# Altium schematic symbol library COOLCONTROL.SCHLIB: 84 symbols
Pins are listed as number, name and electrical type; pins without a type are passive.

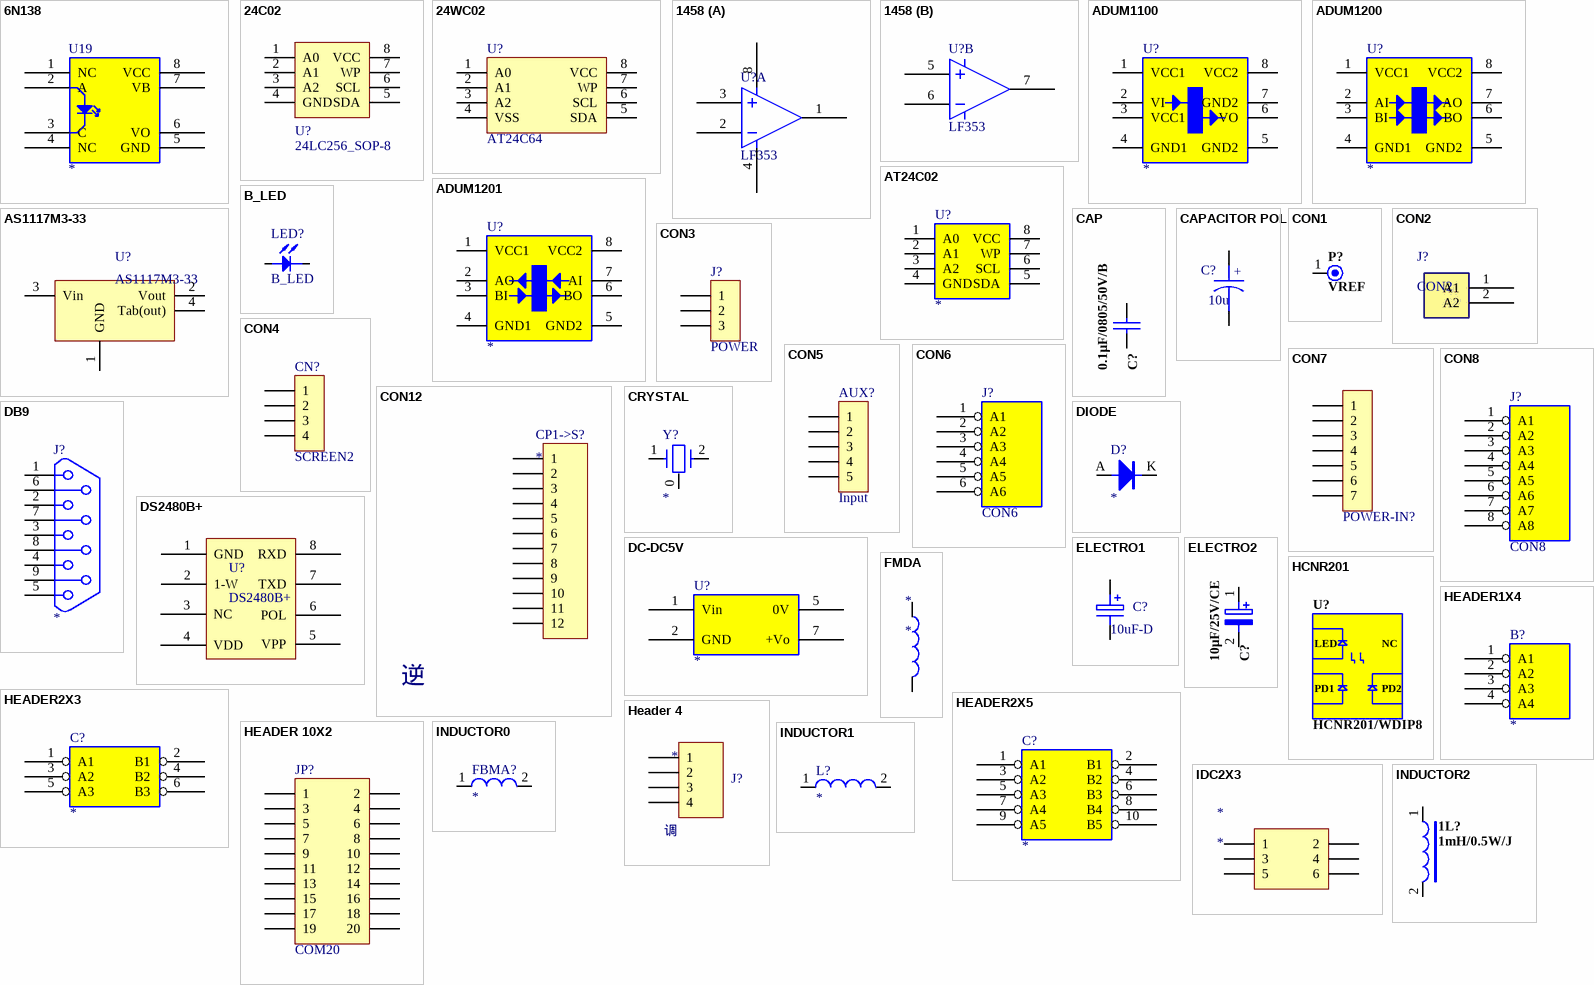
[diagram p0: symbols 6N138 to INDUCTOR2]

## 6N138
designator U19
footprint DIP08
footprint DIP08
pins: 1 NC, 2 A, 3 C, 4 NC, 5 GND, 6 VO, 7 VB, 8 VCC
2 alternate drawings of the same symbol

## 24C02
designator U?, comment 24LC256_SOP-8
footprint SO-8
pins: 1 A0, 2 A1, 3 A2, 4 GND, 5 SDA, 6 SCL, 7 WP, 8 VCC

## 24WC02
designator U?, comment AT24C64
footprint SO-8
pins: 1 A0, 2 A1, 3 A2, 4 VSS, 5 SDA, 6 SCL, 7 WP, 8 VCC
2 alternate drawings of the same symbol

## 1458
designator U?, comment LF353
footprint DIP-8
footprint DIP8
part A pins: 1, 2, 3, 4, 8
part B pins: 5, 6, 7
2 alternate drawings of the same symbol

## ADUM1100
designator U?
footprint SOIC8_N
pins: 1 VCC1, 2 VI, 3 VCC1, 4 GND1, 5 GND2, 6 VO, 7 GND2, 8 VCC2
2 alternate drawings of the same symbol

## ADUM1200
designator U?
footprint SOIC8_N
pins: 1 VCC1, 2 AI, 3 BI, 4 GND1, 5 GND2, 6 BO, 7 AO, 8 VCC2
2 alternate drawings of the same symbol

## ADUM1201
designator U?
footprint SOIC8_N
pins: 1 VCC1, 2 AO, 3 BI, 4 GND1, 5 GND2, 6 BO, 7 AI, 8 VCC2
2 alternate drawings of the same symbol

## AS1117M3-33
designator U?
物?: *; 部?: *; 供?: *
footprint SOT-223-3L(M3)
pins: 1 GND, 2 Vout, 3 Vin, 4 Tab(out)

## AT24C02
designator U?
footprint SO-8
pins: 1 A0, 2 A1, 3 A2, 4 GND, 5 SDA, 6 SCL, 7 WP, 8 VCC
2 alternate drawings of the same symbol

## B_LED
designator LED?
footprint LED_0805
pins: 1, 2

## CAP
designator C?, comment 0.1μF/0805/50V/B
Capacitor; 物: *; 部: *; 供: *
footprint C0805
pins: 1, 2

## CAPACITOR POL
designator C?, comment 10u
Capacitor
footprint RB.1/.2
pins: 1, 2
2 alternate drawings of the same symbol
text: +

## CON1
designator P?, comment VREF
footprint SIP01
pins: 1

## CON2
designator J?
footprint HEADER2
pins: 1 A1, 2 A2

## CON3
designator J?, comment POWER
Connector
footprint SIP3B
pins: 1, 2, 3
2 alternate drawings of the same symbol

## CON4
designator CN?, comment SCREEN2
Connector
footprint SIP4B
pins: 1, 2, 3, 4
2 alternate drawings of the same symbol

## CON5
designator AUX?, comment Input
Connector
footprint SIP5B
pins: 1, 2, 3, 4, 5
2 alternate drawings of the same symbol

## CON6
designator J?
footprint SIP-6
pins: 1 A1, 2 A2, 3 A3, 4 A4, 5 A5, 6 A6

## CON7
designator POWER-IN?  (value not drawn)
Connector
footprint SIP7B
pins: 1, 2, 3, 4, 5, 6, 7
2 alternate drawings of the same symbol

## CON8
designator J?
footprint CON8
pins: 1 A1, 2 A2, 3 A3, 4 A4, 5 A5, 6 A6, 7 A7, 8 A8

## CON12
designator CP1->S?
Connector
footprint SIP12B
pins: 1, 2, 3, 4, 5, 6, 7, 8, 9, 10, 11, 12
2 alternate drawings of the same symbol
text: 逆

## CRYSTAL
designator Y?
物?: *; 部?: *; 供?: *
footprint XTAL_SOCKET
footprint XTAL4
pins: 0, 1, 2
2 alternate drawings of the same symbol

## DB9
designator J?
footprint DB9FL
pins: 1, 2, 3, 4, 5, 6, 7, 8, 9
2 alternate drawings of the same symbol

## DC-DC5V
designator U?
footprint DC-DC
pins: 1 Vin, 2 GND, 5 0V, 7 +Vo
2 alternate drawings of the same symbol

## DIODE
designator D?
footprint SMB
pins: A, K
2 alternate drawings of the same symbol

## DS2480B+
designator U?
footprint SOIC127P600-8
pins: 1 GND, 2 1-W, 3 NC, 4 VDD, 5 VPP, 6 POL, 7 TXD, 8 RXD

## ELECTRO1
designator C?, comment 10uF-D
Electrolytic Capacitor
footprint RB.1/.2
pins: 1, 2
2 alternate drawings of the same symbol

## ELECTRO2
designator C?, comment 10μF/25V/CE
footprint RB.1/.2
pins: 1, 2

## FMDA
designator *
pins: 1, 2

## HCNR201
designator U?, comment HCNR201/WDIP8
footprint DIP08W
pins: 1 hidden, 2 hidden, 3 hidden, 4 hidden, 5 hidden, 6 hidden, 7 hidden, 8 hidden
2 alternate drawings of the same symbol
text: LED; NC; PD1; PD2

## HEADER1X4
designator B?
footprint SIP_4
pins: 1 A1, 2 A2, 3 A3, 4 A4
2 alternate drawings of the same symbol

## HEADER2X3
designator C?
footprint HEADER6
pins: 1 A1, 2 B1, 3 A2, 4 B2, 5 A3, 6 B3
2 alternate drawings of the same symbol

## HEADER2X5
designator C?
LatestRevisionDate: *; LatestRevisionNote: *; Publisher: *
footprint HEARD2X5
pins: 1 A1, 2 B1, 3 A2, 4 B2, 5 A3, 6 B3, 7 A4, 8 B4, 9 A5, 10 B5
2 alternate drawings of the same symbol

## Header 4
designator J?
Header, 4-Pin; LatestRevisionDate: 17-Jul-2002; LatestRevisionNote: Re-released for DXP Platform.; Publisher: Altium Limited
footprint SIP_4
pins: 1, 2, 3, 4
text: 调

## HEADER 10X2
designator JP?, comment COM20
物?: *; 部?: *; 供?: *
footprint IDC20
pins: 1, 2, 3, 4, 5, 6, 7, 8, 9, 10, 11, 12, 13, 14, 15, 16, 17, 18, 19, 20

## IDC2X3
designator *
pins: 1, 2, 3, 4, 5, 6

## INDUCTOR0
designator FBMA?
物?: *; 部?: *; 供?: *
footprint L0805
pins: 1, 2
2 alternate drawings of the same symbol

## INDUCTOR1
designator L?
footprint AXIAL0.4
pins: 1, 2
2 alternate drawings of the same symbol

## INDUCTOR2
designator 1L?, comment 1mH/0.5W/J
footprint AXIAL0.4
pins: 1, 2

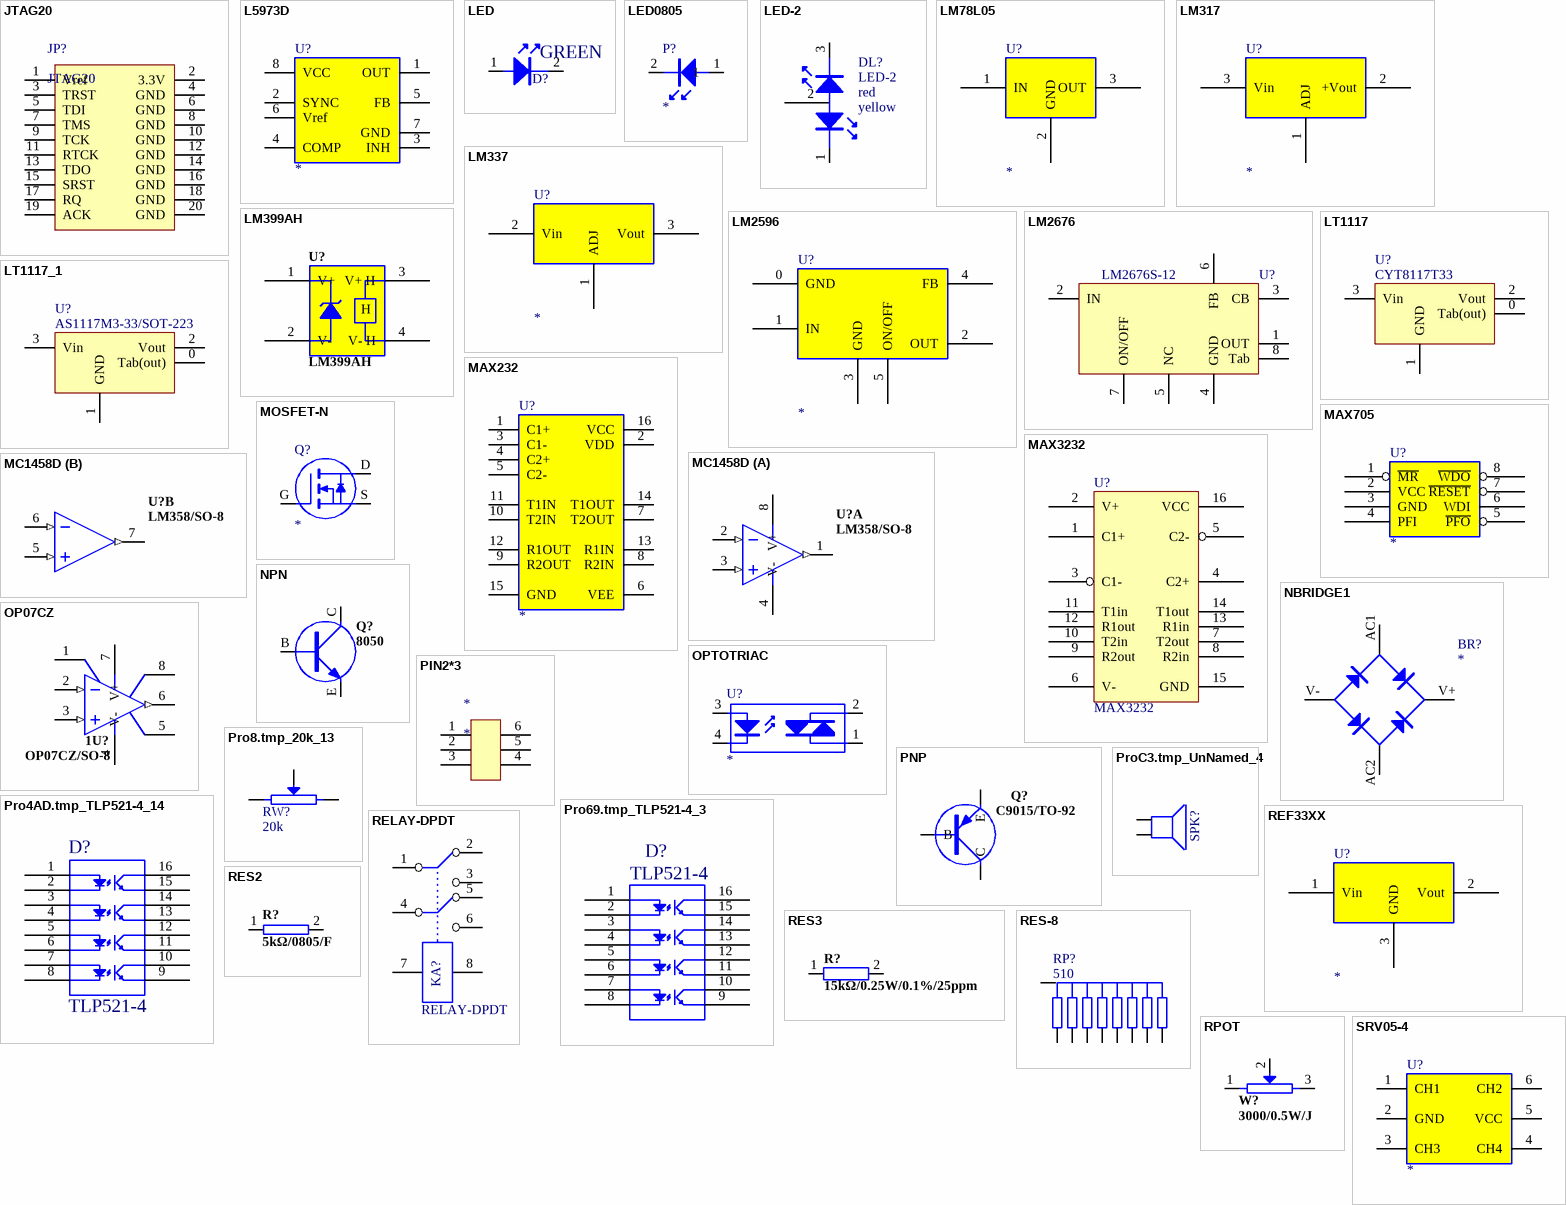
[diagram p1: symbols JTAG20 to SRV05-4]

## JTAG20
designator JP?
pins: 1 Vref, 2 3.3V, 3 TRST, 4 GND, 5 TDI, 6 GND, 7 TMS, 8 GND, 9 TCK, 10 GND, 11 RTCK, 12 GND, 13 TDO, 14 GND, 15 SRST, 16 GND, 17 RQ, 18 GND, 19 ACK, 20 GND

## L5973D
designator U?
footprint HSOP8
pins: 1 OUT, 2 SYNC, 3 INH, 4 COMP, 5 FB, 6 Vref, 7 GND, 8 VCC
2 alternate drawings of the same symbol

## LED
designator D?, comment GREEN
value: *
footprint 0805
footprint LED3_1
pins: 1, 2
2 alternate drawings of the same symbol

## LED0805
designator P?
footprint LED_0805
pins: 1, 2
2 alternate drawings of the same symbol

## LED-2
designator DL?
footprint LED3_2
pins: 1, 2, 3
2 alternate drawings of the same symbol
text: red; yellow

## LM78L05
designator U?
footprint TO-220
pins: 1 IN, 2 GND, 3 OUT
2 alternate drawings of the same symbol

## LM317
designator U?
L
footprint TO220H
pins: 1 ADJ, 2 +Vout, 3 Vin
2 alternate drawings of the same symbol

## LM337
designator U?
footprint TO220H
pins: 1 ADJ, 2 Vin, 3 Vout
2 alternate drawings of the same symbol

## LM399AH
designator U?
footprint LM399
pins: 1 V+ (power), 2 V- (power), 3 V+ H (power), 4 V- H (power)
2 alternate drawings of the same symbol
text: H

## LM2596
designator U?
footprint TO263
pins: 0 GND, 1 IN, 2 OUT, 3 GND, 4 FB, 5 ON/OFF
2 alternate drawings of the same symbol

## LM2676
designator U?, comment LM2676S-12
footprint TO-263-7
pins: 1 OUT, 2 IN, 3 CB, 4 GND, 5 NC, 6 FB, 7 ON/OFF, 8 Tab

## LT1117
designator U?, comment CYT8117T33
footprint SOT-223_1
pins: 0 Tab(out), 1 GND, 2 Vout, 3 Vin
2 alternate drawings of the same symbol

## LT1117_1
designator U?, comment AS1117M3-33/SOT-223
footprint SOT-223-3L(M3)
pins: 0 Tab(out), 1 GND, 2 Vout, 3 Vin
2 alternate drawings of the same symbol

## MAX232
designator U?
Published: *; LatestRevisionDate: *; LatestRevisionNote: *; PackageReference: *; Publisher: *; PackageDescription: *; Code_JEDEC: *; Code_IPC: *; ComponentLink1Description: *; ComponentLink1URL: *; ComponentLink2Description: *; ComponentLink2URL: *
footprint TSSOP16_M
pins: 1 C1+, 2 VDD (power), 3 C1-, 4 C2+, 5 C2-, 6 VEE (power), 7 T2OUT, 8 R2IN, 9 R2OUT, 10 T2IN, 11 T1IN, 12 R1OUT, 13 R1IN, 14 T1OUT, 15 GND (power), 16 VCC (power)
2 alternate drawings of the same symbol

## MAX705
designator U?
footprint SO-8
pins: 1 ~{MR}, 2 VCC, 3 GND, 4 PFI, 5 ~{PFO}, 6 WDI, 7 ~{RESET}, 8 ~{WDO}
2 alternate drawings of the same symbol

## MAX3232
designator U?
footprint DIP16
pins: 1 C1+, 2 V+, 3 C1-, 4 C2+, 5 C2-, 6 V-, 7 T2out, 8 R2in, 9 R2out, 10 T2in, 11 T1in, 12 R1out, 13 R1in, 14 T1out, 15 GND, 16 VCC
2 alternate drawings of the same symbol

## MC1458D
designator U?, comment LM358/SO-8
footprint SO-8
part A pins: 1 (out), 2 (in), 3 (in), 4 V- (power), 8 V+ (power)
part B pins: 5 (in), 6 (in), 7 (out)
2 alternate drawings of the same symbol

## MOSFET-N
designator Q?
footprint SOT-23-B
pins: D, G, S

## NBRIDGE1
designator BR?
footprint DB157S
pins: AC1, AC2, V+, V-
2 alternate drawings of the same symbol

## NPN
designator Q?, comment 8050
footprint TO92A
pins: B, C, E

## OP07CZ
designator 1U?, comment OP07CZ/SO-8
footprint SO-8
pins: 1, 2 (in), 3 (in), 4 V- (power), 5, 6 (out), 7 V+ (power), 8
2 alternate drawings of the same symbol

## OPTOTRIAC
designator U?
footprint SPST-REALY
pins: 1, 2, 3, 4

## PIN2*3
designator *
pins: 1, 2, 3, 4, 5, 6

## PNP
designator Q?, comment C9015/TO-92
footprint TO-92B (TO, Flat Index; 3 In-Line, Axial Leads; Body Dia. 4.8mm; Leads 0.48 x 0.5 mm (max))
pins: 1 B, 2 E, 3 C

## Pro4AD.tmp_TLP521-4_14
designator D?, comment TLP521-4
footprint DIP16
pins: 1, 2, 3, 4, 5, 6, 7, 8, 9, 10, 11, 12, 13, 14, 15, 16
2 alternate drawings of the same symbol

## Pro8.tmp_20k_13
designator RW?, comment 20k
footprint VR5
pins: 1, 2, 3
2 alternate drawings of the same symbol

## Pro69.tmp_TLP521-4_3
designator D?, comment TLP521-4
footprint DIP16
pins: 1, 2, 3, 4, 5, 6, 7, 8, 9, 10, 11, 12, 13, 14, 15, 16
2 alternate drawings of the same symbol

## ProC3.tmp_UnNamed_4
designator SPK?
footprint SPK
footprint BELL-2
pins: 1, 2
2 alternate drawings of the same symbol

## REF33XX
designator U?
物?: *; 部?: *; 供?: *
footprint SOT-23-B
pins: 1 Vin, 2 Vout, 3 GND
2 alternate drawings of the same symbol

## RELAY-DPDT
designator KA?
JK
footprint RELAY8
footprint RL-8N
footprint RL-8D
footprint RELAY-8
pins: 1, 2, 3, 4, 5, 6, 7, 8
2 alternate drawings of the same symbol

## RES2
designator R?, comment 5kΩ/0805/F
footprint R0805
pins: 1, 2

## RES3
designator R?, comment 15kΩ/0.25W/0.1%/25ppm
footprint AXIAL0.3
pins: 1, 2
2 alternate drawings of the same symbol

## RES-8
designator RP?, comment 510
footprint SIP9
pins: 1, 2, 3, 4, 5, 6, 7, 8, 9
2 alternate drawings of the same symbol

## RPOT
designator W?, comment 3000/0.5W/J
footprint RVR-4
pins: 1, 2, 3

## SRV05-4
designator U?
footprint SOT23-6
pins: 1 CH1, 2 GND, 3 CH3, 4 CH4, 5 VCC, 6 CH2
2 alternate drawings of the same symbol

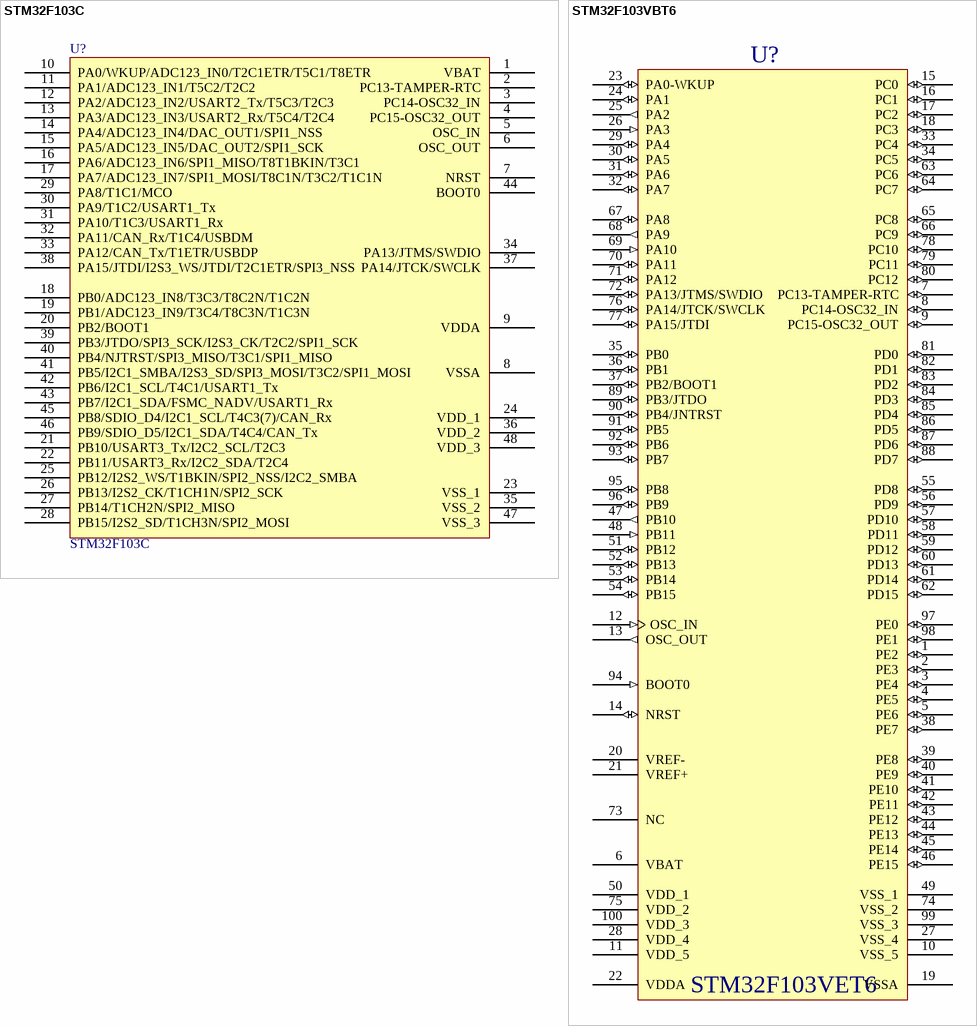
[diagram p2: symbols STM32F103C to STM32F103VBT6]

## STM32F103C
designator U?
STM32单片机48引脚
footprint LQFP-48_M (Thin QFP, 48-Leads, Body 7x7mm, Pitch 0.5mm, IPC Low Density)
pins: 1 VBAT, 2 PC13-TAMPER-RTC, 3 PC14-OSC32_IN, 4 PC15-OSC32_OUT, 5 OSC_IN, 6 OSC_OUT, 7 NRST, 8 VSSA, 9 VDDA, 10 PA0/WKUP/ADC123_IN0/T2C1ETR/T5C1/T8ETR, 11 PA1/ADC123_IN1/T5C2/T2C2, 12 PA2/ADC123_IN2/USART2_Tx/T5C3/T2C3, 13 PA3/ADC123_IN3/USART2_Rx/T5C4/T2C4, 14 PA4/ADC123_IN4/DAC_OUT1/SPI1_NSS, 15 PA5/ADC123_IN5/DAC_OUT2/SPI1_SCK, 16 PA6/ADC123_IN6/SPI1_MISO/T8T1BKIN/T3C1, 17 PA7/ADC123_IN7/SPI1_MOSI/T8C1N/T3C2/T1C1N, 18 PB0/ADC123_IN8/T3C3/T8C2N/T1C2N, 19 PB1/ADC123_IN9/T3C4/T8C3N/T1C3N, 20 PB2/BOOT1, 21 PB10/USART3_Tx/I2C2_SCL/T2C3, 22 PB11/USART3_Rx/I2C2_SDA/T2C4, 23 VSS_1, 24 VDD_1, 25 PB12/I2S2_WS/T1BKIN/SPI2_NSS/I2C2_SMBA, 26 PB13/I2S2_CK/T1CH1N/SPI2_SCK, 27 PB14/T1CH2N/SPI2_MISO, 28 PB15/I2S2_SD/T1CH3N/SPI2_MOSI, 29 PA8/T1C1/MCO, 30 PA9/T1C2/USART1_Tx, 31 PA10/T1C3/USART1_Rx, 32 PA11/CAN_Rx/T1C4/USBDM, 33 PA12/CAN_Tx/T1ETR/USBDP, 34 PA13/JTMS/SWDIO, 35 VSS_2, 36 VDD_2, 37 PA14/JTCK/SWCLK, 38 PA15/JTDI/I2S3_WS/JTDI/T2C1ETR/SPI3_NSS, 39 PB3/JTDO/SPI3_SCK/I2S3_CK/T2C2/SPI1_SCK, 40 PB4/NJTRST/SPI3_MISO/T3C1/SPI1_MISO, 41 PB5/I2C1_SMBA/I2S3_SD/SPI3_MOSI/T3C2/SPI1_MOSI, 42 PB6/I2C1_SCL/T4C1/USART1_Tx, 43 PB7/I2C1_SDA/FSMC_NADV/USART1_Rx, 44 BOOT0, 45 PB8/SDIO_D4/I2C1_SCL/T4C3(7)/CAN_Rx, 46 PB9/SDIO_D5/I2C1_SDA/T4C4/CAN_Tx, 47 VSS_3, 48 VDD_3

## STM32F103VBT6
designator U?, comment STM32F103VET6
STM32 ARM-based 32-bit MCU with 64 Kbytes Flash, 100-pin LQFP, Industrial Temperature; Published: *; DatasheetVersion: *; PackageVersion: *; PackageReference: *; Publisher: *; PackageDescription: *; ComponentLink1Description: *; ComponentLink1URL: *; ComponentLink2Description: *; ComponentLink2URL: *
footprint LQFP100_N
footprint LQFP100_L
footprint LQFP100_M
pins: 1 PE2 (io), 2 PE3 (io), 3 PE4 (io), 4 PE5 (io), 5 PE6 (io), 6 VBAT (power), 7 PC13-TAMPER-RTC (io), 8 PC14-OSC32_IN (io), 9 PC15-OSC32_OUT (io), 10 VSS_5 (power), 11 VDD_5 (power), 12 OSC_IN (in), 13 OSC_OUT (out), 14 NRST (io), 15 PC0 (io), 16 PC1 (io), 17 PC2 (io), 18 PC3 (io), 19 VSSA (power), 20 VREF- (power), 21 VREF+ (power), 22 VDDA (power), 23 PA0-WKUP (io), 24 PA1 (io), 25 PA2 (out), 26 PA3 (in), 27 VSS_4 (power), 28 VDD_4 (power), 29 PA4 (io), 30 PA5 (io), 31 PA6 (io), 32 PA7 (io), 33 PC4 (io), 34 PC5 (io), 35 PB0 (io), 36 PB1 (io), 37 PB2/BOOT1 (io), 38 PE7 (io), 39 PE8 (io), 40 PE9 (io), 41 PE10 (io), 42 PE11 (io), 43 PE12 (io), 44 PE13 (io), 45 PE14 (io), 46 PE15 (io), 47 PB10 (out), 48 PB11 (in), 49 VSS_1 (power), 50 VDD_1 (power), 51 PB12 (io), 52 PB13 (io), 53 PB14 (io), 54 PB15 (io), 55 PD8 (io), 56 PD9 (io), 57 PD10 (io), 58 PD11 (io), 59 PD12 (io), 60 PD13 (io), 61 PD14 (io), 62 PD15 (io), 63 PC6 (io), 64 PC7 (io), 65 PC8 (io), 66 PC9 (io), 67 PA8 (io), 68 PA9 (out), 69 PA10 (in), 70 PA11 (io), 71 PA12 (io), 72 PA13/JTMS/SWDIO (io), 73 NC, 74 VSS_2 (power), 75 VDD_2 (power), 76 PA14/JTCK/SWCLK (io), 77 PA15/JTDI (io), 78 PC10 (io), 79 PC11 (io), 80 PC12 (io), 81 PD0 (io), 82 PD1 (io), 83 PD2 (io), 84 PD3 (io), 85 PD4 (io), 86 PD5 (io), 87 PD6 (io), 88 PD7 (io), 89 PB3/JTDO (io), 90 PB4/JNTRST (io), 91 PB5 (io), 92 PB6 (io), 93 PB7 (io), 94 BOOT0 (in), 95 PB8 (io), 96 PB9 (io), 97 PE0 (io), 98 PE1 (io), 99 VSS_3 (power), 100 VDD_3 (power)
2 alternate drawings of the same symbol

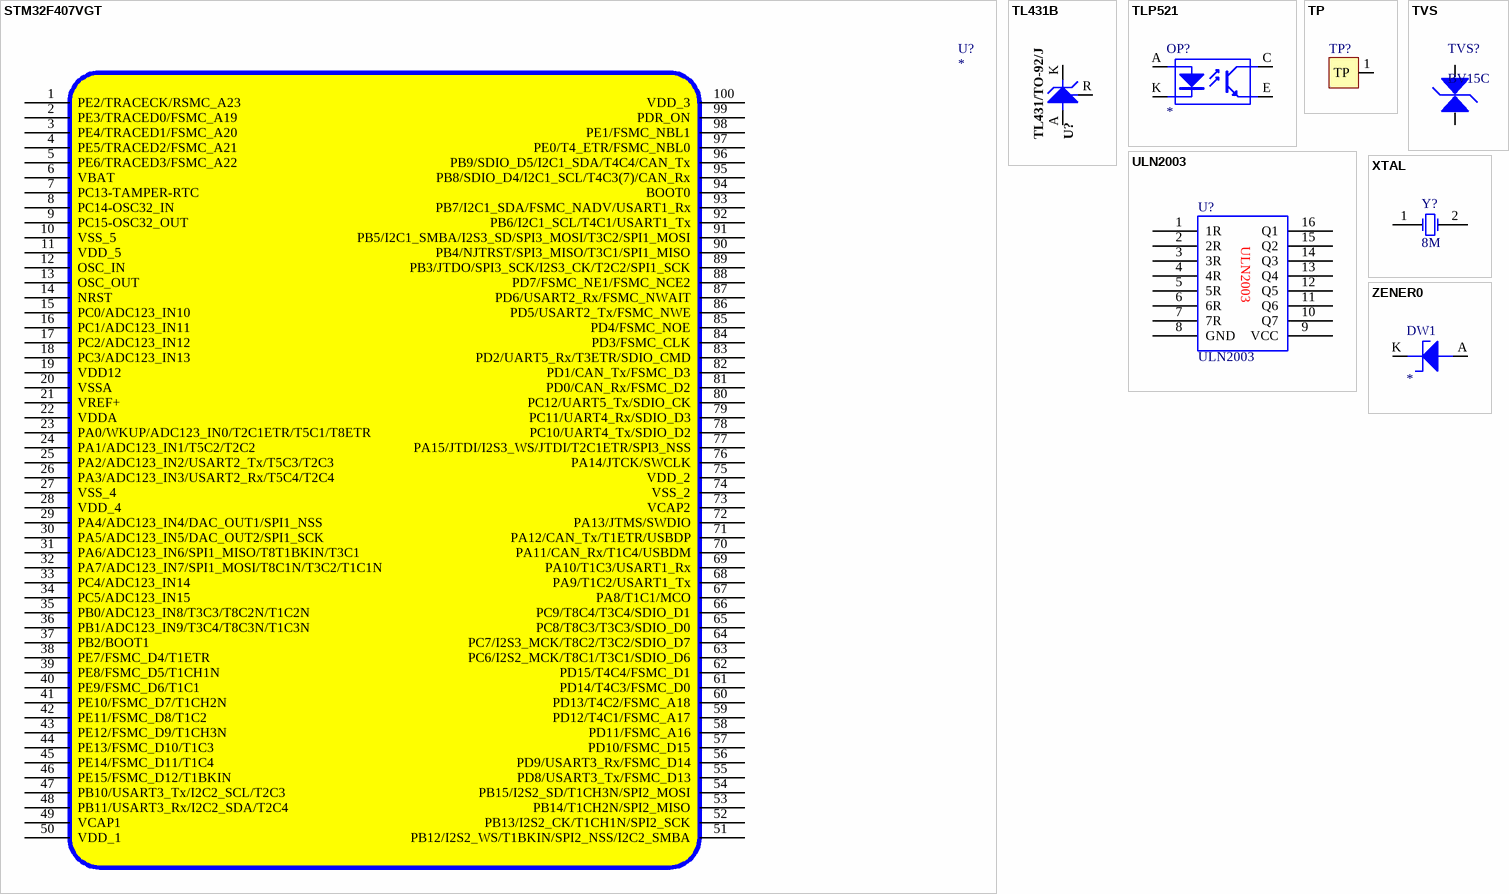
[diagram p3: symbols STM32F407VGT to ZENER0]

## STM32F407VGT
designator U?
footprint LQFP-100
pins: 1 PE2/TRACECK/RSMC_A23, 2 PE3/TRACED0/FSMC_A19, 3 PE4/TRACED1/FSMC_A20, 4 PE5/TRACED2/FSMC_A21, 5 PE6/TRACED3/FSMC_A22, 6 VBAT, 7 PC13-TAMPER-RTC, 8 PC14-OSC32_IN, 9 PC15-OSC32_OUT, 10 VSS_5, 11 VDD_5, 12 OSC_IN, 13 OSC_OUT, 14 NRST, 15 PC0/ADC123_IN10, 16 PC1/ADC123_IN11, 17 PC2/ADC123_IN12, 18 PC3/ADC123_IN13, 19 VDD12, 20 VSSA, 21 VREF+, 22 VDDA, 23 PA0/WKUP/ADC123_IN0/T2C1ETR/T5C1/T8ETR, 24 PA1/ADC123_IN1/T5C2/T2C2, 25 PA2/ADC123_IN2/USART2_Tx/T5C3/T2C3, 26 PA3/ADC123_IN3/USART2_Rx/T5C4/T2C4, 27 VSS_4, 28 VDD_4, 29 PA4/ADC123_IN4/DAC_OUT1/SPI1_NSS, 30 PA5/ADC123_IN5/DAC_OUT2/SPI1_SCK, 31 PA6/ADC123_IN6/SPI1_MISO/T8T1BKIN/T3C1, 32 PA7/ADC123_IN7/SPI1_MOSI/T8C1N/T3C2/T1C1N, 33 PC4/ADC123_IN14, 34 PC5/ADC123_IN15, 35 PB0/ADC123_IN8/T3C3/T8C2N/T1C2N, 36 PB1/ADC123_IN9/T3C4/T8C3N/T1C3N, 37 PB2/BOOT1, 38 PE7/FSMC_D4/T1ETR, 39 PE8/FSMC_D5/T1CH1N, 40 PE9/FSMC_D6/T1C1, 41 PE10/FSMC_D7/T1CH2N, 42 PE11/FSMC_D8/T1C2, 43 PE12/FSMC_D9/T1CH3N, 44 PE13/FSMC_D10/T1C3, 45 PE14/FSMC_D11/T1C4, 46 PE15/FSMC_D12/T1BKIN, 47 PB10/USART3_Tx/I2C2_SCL/T2C3, 48 PB11/USART3_Rx/I2C2_SDA/T2C4, 49 VCAP1, 50 VDD_1, 51 PB12/I2S2_WS/T1BKIN/SPI2_NSS/I2C2_SMBA, 52 PB13/I2S2_CK/T1CH1N/SPI2_SCK, 53 PB14/T1CH2N/SPI2_MISO, 54 PB15/I2S2_SD/T1CH3N/SPI2_MOSI, 55 PD8/USART3_Tx/FSMC_D13, 56 PD9/USART3_Rx/FSMC_D14, 57 PD10/FSMC_D15, 58 PD11/FSMC_A16, 59 PD12/T4C1/FSMC_A17, 60 PD13/T4C2/FSMC_A18, 61 PD14/T4C3/FSMC_D0, 62 PD15/T4C4/FSMC_D1, 63 PC6/I2S2_MCK/T8C1/T3C1/SDIO_D6, 64 PC7/I2S3_MCK/T8C2/T3C2/SDIO_D7, 65 PC8/T8C3/T3C3/SDIO_D0, 66 PC9/T8C4/T3C4/SDIO_D1, 67 PA8/T1C1/MCO, 68 PA9/T1C2/USART1_Tx, 69 PA10/T1C3/USART1_Rx, 70 PA11/CAN_Rx/T1C4/USBDM, 71 PA12/CAN_Tx/T1ETR/USBDP, 72 PA13/JTMS/SWDIO, 73 VCAP2, 74 VSS_2, 75 VDD_2, 76 PA14/JTCK/SWCLK, 77 PA15/JTDI/I2S3_WS/JTDI/T2C1ETR/SPI3_NSS, 78 PC10/UART4_Tx/SDIO_D2, 79 PC11/UART4_Rx/SDIO_D3, 80 PC12/UART5_Tx/SDIO_CK, 81 PD0/CAN_Rx/FSMC_D2, 82 PD1/CAN_Tx/FSMC_D3, 83 PD2/UART5_Rx/T3ETR/SDIO_CMD, 84 PD3/FSMC_CLK, 85 PD4/FSMC_NOE, 86 PD5/USART2_Tx/FSMC_NWE, 87 PD6/USART2_Rx/FSMC_NWAIT, 88 PD7/FSMC_NE1/FSMC_NCE2, 89 PB3/JTDO/SPI3_SCK/I2S3_CK/T2C2/SPI1_SCK, 90 PB4/NJTRST/SPI3_MISO/T3C1/SPI1_MISO, 91 PB5/I2C1_SMBA/I2S3_SD/SPI3_MOSI/T3C2/SPI1_MOSI, 92 PB6/I2C1_SCL/T4C1/USART1_Tx, 93 PB7/I2C1_SDA/FSMC_NADV/USART1_Rx, 94 BOOT0, 95 PB8/SDIO_D4/I2C1_SCL/T4C3(7)/CAN_Rx, 96 PB9/SDIO_D5/I2C1_SDA/T4C4/CAN_Tx, 97 PE0/T4_ETR/FSMC_NBL0, 98 PE1/FSMC_NBL1, 99 PDR_ON, 100 VDD_3
2 alternate drawings of the same symbol

## TL431B
designator U?, comment TL431/TO-92/J
footprint TO92B
footprint TL431A
pins: A, K, R

## TLP521
designator OP?
footprint DIP04
pins: A, C, E, K
2 alternate drawings of the same symbol

## TP
designator TP?
footprint TESTSMD
pins: 1 TP

## TVS
designator TVS?, comment BV15C
pins: 1, 2

## ULN2003
designator U?
U?
footprint SO-16
footprint SOP-16
footprint DIP16
pins: 1 1R, 2 2R, 3 3R, 4 4R, 5 5R, 6 6R, 7 7R, 8 GND, 9 VCC, 10 Q7, 11 Q6, 12 Q5, 13 Q4, 14 Q3, 15 Q2, 16 Q1
2 alternate drawings of the same symbol

## XTAL
designator Y?, comment 8M
Crystal Oscillator; Published: 8-Jun-2000; LatestRevisionDate: 17-Jul-2002; LatestRevisionNote: Re-released for DXP Platform.; PackageReference: R38; Publisher: Altium Limited
footprint XTAL-2
pins: 1 OSC1, 2 OSC2
2 alternate drawings of the same symbol

## ZENER0
designator DW1
footprint DIODE0.2
pins: A, K
2 alternate drawings of the same symbol